# Altium footprint library МЦТР.00010572.00.001.PcbLib: 31 footprints (part 1 of 2)
Each footprint in its own frame and in the unit in brackets; x right, y up, seen from the top. Pads: shape width x height; smd on the part's side, far side on the other; paste and mask are expansions set on the pad; w line width, h text height; cw(c..) or ccw(c..) is an arc to the next point about the centre after c.
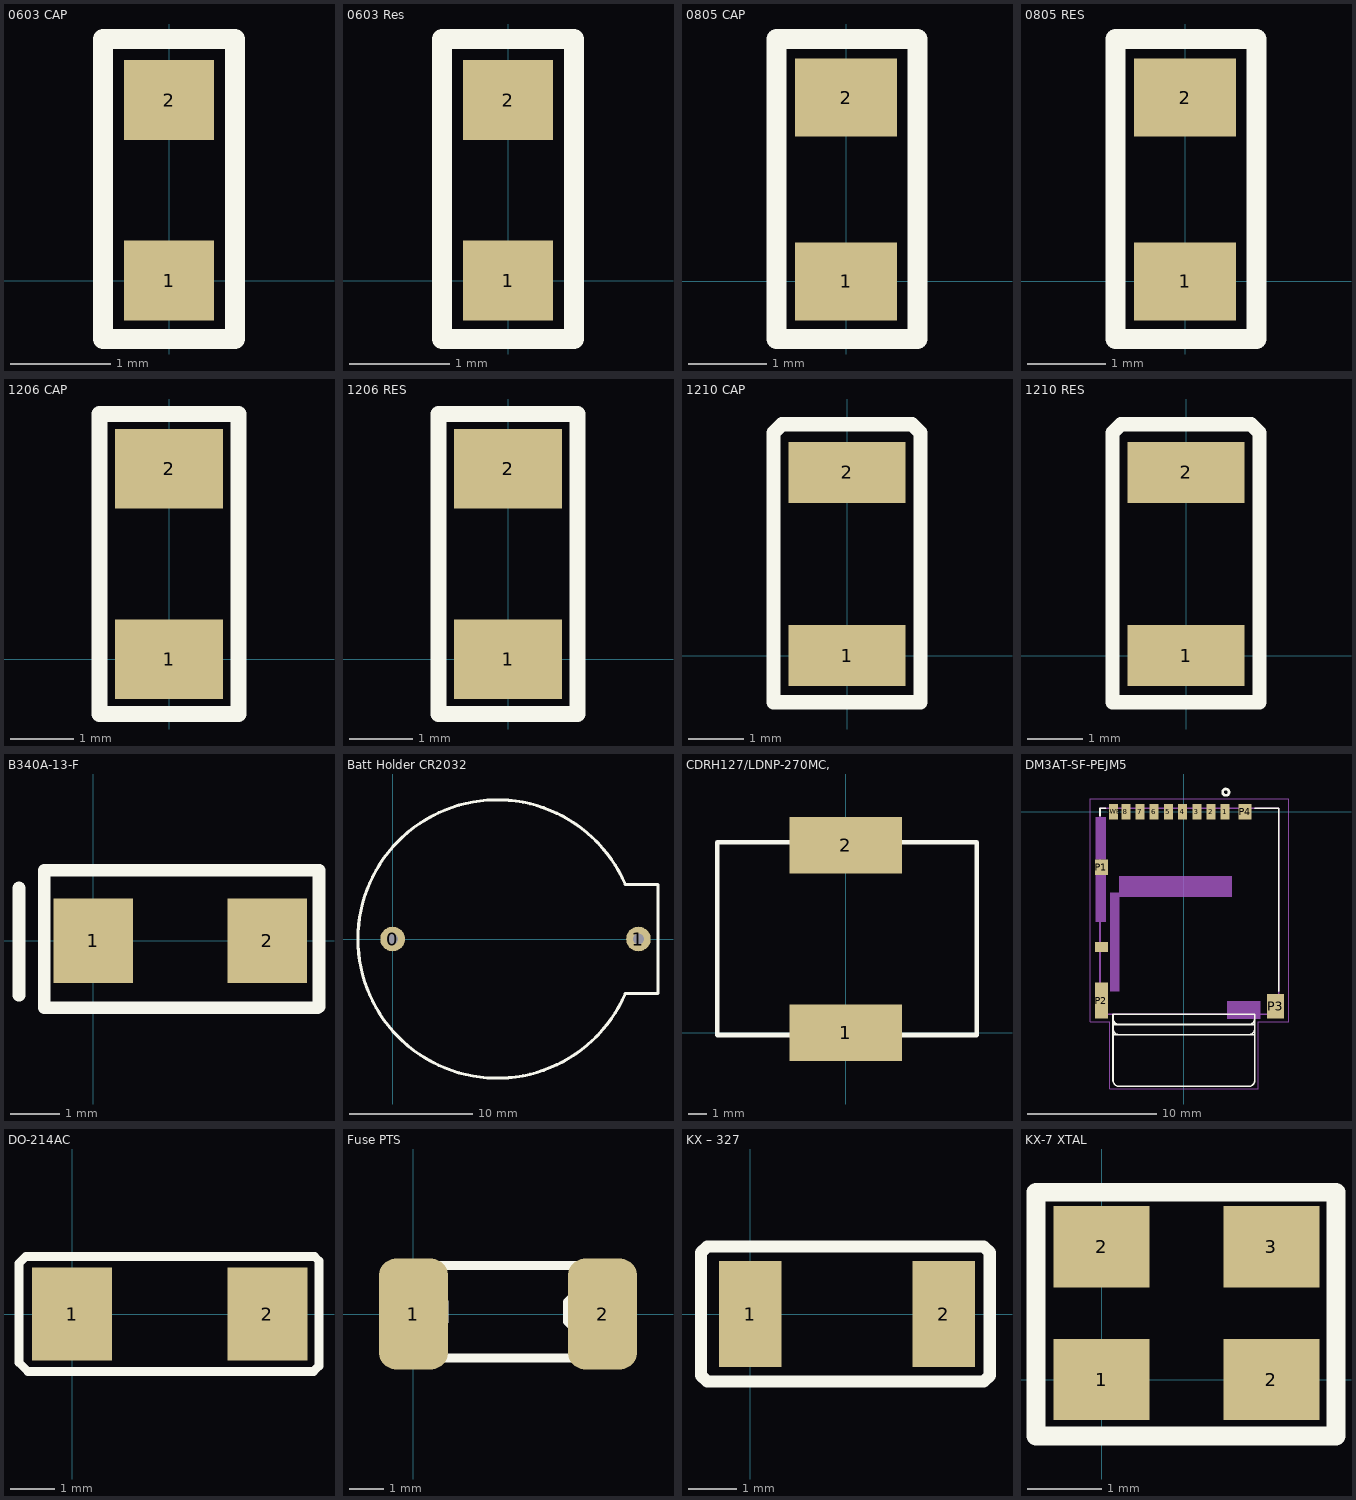
[diagram p0: the footprints below, top view; thin cyan lines are the x and y axes]

## 0603 CAP [mm]
height 1
pads (2):
  rect 0.9x0.8 smd mask+0.102: 1(0,0) 2(0,1.803)
Top Overlay:
  lines w0.2: -0.66,-0.584 -0.66,2.413 0.66,2.413 0.66,-0.584 -0.66,-0.584
3D body "GRM188R71E104KA01D.STEP": height 0.4, standoff -0.4, extent -0.392,0.089 0.508,1.689

## 0603 Res [mm]
height 1
pads (2):
  rect 0.9x0.8 smd mask+0.102: 1(0,0) 2(0,1.803)
Top Overlay:
  lines w0.2: -0.66,-0.584 0.66,-0.584 0.66,2.413 -0.66,2.413 -0.66,-0.584

## 0805 CAP [mm]
height 1
pads (2):
  rect 1.3x1 smd: 1(0,0) 2(0,2.35)
Top Overlay:
  lines w0.254: -0.889,-0.737 -0.889,3.099 0.914,3.099 0.914,-0.737 -0.889,-0.737

## 0805 RES [mm]
height 1
pads (2):
  rect 1.3x1 smd: 1(0,0) 2(0,2.35)
Top Overlay:
  lines w0.254: -0.889,-0.737 -0.889,3.099 0.914,3.099 0.914,-0.737 -0.889,-0.737

## 1206 CAP [mm]
height 2
pads (2):
  rect 1.7x1.25 smd: 1(0,0) 2(0,3)
Top Overlay:
  lines w0.254: -1.092,-0.864 1.092,-0.864 1.092,3.861 -1.092,3.861 -1.092,-0.864

## 1206 RES [mm]
height 2
pads (2):
  rect 1.7x1.25 smd: 1(0,0) 2(0,3)
Top Overlay:
  lines w0.254: -1.092,-0.864 1.092,-0.864 1.092,3.861 -1.092,3.861 -1.092,-0.864

## 1210 CAP [mm]
height 2
pads (2):
  rect 2.1x1.1 smd: 1(0,0) 2(0,3.3)
Top Overlay:
  lines w0.254: -1.321,-0.838 1.321,-0.838 1.321,4.013 1.168,4.166 -1.168,4.166 -1.321,4.013 -1.321,-0.838

## 1210 RES [mm]
height 2
pads (2):
  rect 2.1x1.1 smd: 1(0,0) 2(0,3.3)
Top Overlay:
  lines w0.254: -1.321,-0.838 -1.321,4.013 -1.168,4.166 1.168,4.166 1.321,4.013 1.321,-0.838 -1.321,-0.838

## B340A-13-F [mm]
height 2
pads (2):
  rect 1.6x1.7 smd: 1(0,0) 2(3.5,0)
Top Overlay:
  lines w0.254: -1.499,-1.092 -1.499,1.067 ; 4.521,-1.346 -0.991,-1.346 -0.991,1.422 4.547,1.422 4.547,-1.327

## Batt Holder CR2032 [mm]
height 5
pads (2):
  round 2 hole 0.9: 0(0,0) 1(20,0)
Top Overlay:
  lines w0.254: 18.923,-4.445 cw(c8.509,0) 18.923,4.445 21.59,4.445 21.59,-4.445 18.923,-4.445

## CDRH127/LDNP-270MC, [mm]
pads (2):
  rect 6x3 smd: 1(0,0) 2(0,10)
Top Overlay:
  lines w0.254: -6.858,-0.127 6.985,-0.127 6.985,10.16 -6.858,10.16 -6.858,-0.127
3D body: height 6, standoff 0, extent -6.985,-0.254 7.112,10.287

## DM3AT-SF-PEJM5 [mm]
height 2
pads (14):
  rect 0.7x1.2 smd: 1(3.2,0) 2(2.1,0) 3(1,0) 4(-0.1,0) 5(-1.2,0) 6(-2.3,0) 7(-3.4,0) 8(-4.5,0) SWB(-5.45,0)
  rect 1x1.2 smd: P1(-6.4,-4.3) P4(4.75,0)
  rect 1x2.8 smd: P2(-6.4,-14.65)
  rect 1.3x1.9 smd: P3(7.1,-15.1)
  rect 1x0.8 smd: SWA(-6.4,-10.5)
Top Overlay:
  circle w0.2: c3.25,1.5 r0.25
  lines w0.127: -6.5,-0.3 -6.5,0.25 -6.05,0.25 ; 5.5,0.25 7.35,0.25 7.35,-13.9 ; -5.5,-17.3 -5,-17.3 ; -5.5,-17.3 -5.5,-16.8 ; -5.5,-17.3 -5.5,-20.8 ccw(c-5,-20.8) -5,-21.3 5,-21.3 ccw(c5,-20.8) 5.5,-20.8 5.5,-17.3 ; -5.5,-16.8 ccw(c-5,-16.8) -5,-17.3 ; -5.5,-16.8 -5.5,-16.5 ; -5.5,-16.5 -5,-16.5 ; -5.5,-16.5 -5.5,-16 ; -5.5,-16 ccw(c-5,-16) -5,-16.5 ; -5.5,-16 -5.5,-15.7 5.5,-15.7 5.5,-16 ; -5,-17.3 5,-17.3 ; -5,-16.5 5,-16.5 ; 5,-17.3 ccw(c5,-16.8) 5.5,-16.8 ; 5,-17.3 5.5,-17.3 ; 5,-16.5 ccw(c5,-16) 5.5,-16 ; 5,-16.5 5.5,-16.5 ; 5.5,-17.3 5.5,-16.8 ; 5.5,-16.8 5.5,-16.5 ; 5.5,-16.5 5.5,-16
Mechanical 1:
  region: -6.825,-0.45 -6.05,-0.45 -6.05,-3.714 -6.825,-3.714
  region: -6.817,-4.9 -6.05,-4.9 -6.05,-8.521 -6.817,-8.521
  region: -5.715,-6.3 -5,-6.3 -5,-13.937 -5.715,-13.937
  region: -5.008,-5 3.7,-5 3.7,-6.611 -5.008,-6.611
  region: 3.355,-14.7 5.9,-14.7 5.9,-16.072 3.355,-16.072
  lines w0.127: -6.5,-15.7 7.35,-15.7 7.35,0.25 -6.5,0.25 -6.5,-15.7
  text "PCB Edge" at -4.76,-15.783 h1.88
Mechanical 4:
  lines w0.05: -7.25,-16.3 -5.75,-16.3 -5.75,-21.5 5.75,-21.5 5.75,-16.3 8.125,-16.3 8.125,1 -7.25,1 -7.25,-16.3

## DO-214AC [mm]
pads (2):
  rect 1.8x2.1 smd: 1(0,0) 2(4.4,0)
Top Overlay:
  lines w0.2: -1.194,-1.092 -1.194,1.143 -1.041,1.295 5.461,1.295 5.563,1.194 5.563,-1.168 5.436,-1.295 -0.991,-1.295 -1.194,-1.092

## Fuse PTS [mm]
pads (2):
  rrect50% 2x3.2 smd: 1(0,0) 2(5.45,0)
Top Overlay:
  lines w0.254: 0.508,-1.27 4.826,-1.27 4.826,-0.603 4.445,-0.222 4.445,0.349 4.826,0.73 4.826,1.397 0.508,1.397 0.508,0.73 0.889,0.349 0.889,-0.222 0.508,-0.603 0.508,-1.27
3D body: height 1, standoff 0, extent -1.076,-1.676 6.526,1.676

## KX – 327 [mm]
height 2
pads (2):
  rect 1.3x2.2 smd: 1(0,0) 2(4,0)
Top Overlay:
  lines w0.254: -1.016,-1.27 -1.016,1.27 -0.889,1.397 4.826,1.397 4.953,1.27 4.953,-1.27 4.826,-1.397 4.572,-1.397 -0.889,-1.397 -1.016,-1.27

## KX-7 XTAL [mm]
height 1
pads (4):
  rect 1.3x1.1 smd: 1(0,0) 2(0,1.8) 2(2.3,0) 3(2.3,1.8)
Top Overlay:
  lines w0.254: -0.889,-0.762 -0.889,2.54 3.175,2.54 3.175,-0.762 -0.889,-0.762